# Altium schematic symbol library PEC12R-4220F-S0024.Schlib: 1 symbol
Pins are listed as number, name and electrical type; pins without a type are passive.

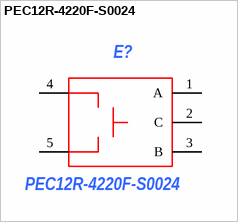
[diagram p0: symbol PEC12R-4220F-S0024]

## PEC12R-4220F-S0024
designator E?
Энкодер инкрементальный; ComponentLink1Description: *; ComponentLink1URL: *; ComponentLink2Description: *; ComponentLink2URL: *; ManufacturerPartNumber: PEC12R-4220F-S0024; Power/Voltage: *; Rem: *; TKE: *; Tolerance: *; TU/GOST: *; Value: *; Корпус: *; Примечание: *; Manufacturer: *; Author: *; Type: *
pins: 1 A (power), 2 C (power), 3 B (power), 4 SB1 (power), 5 SB2 (power)